# EAGLE library part CD4504B (library CD4504B)
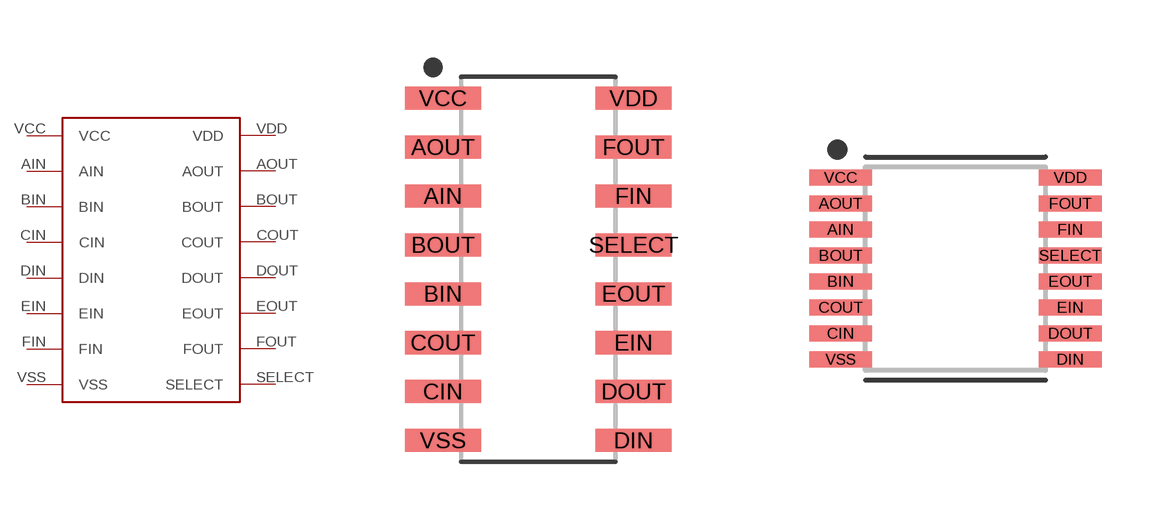
[diagram p0: symbol with the pads of SOIC127P600X175-16N; footprints SOIC127P600X175-16N, SOP65P640X120-16N]

Designator prefix -

## CD4504BSOIC16  [SOIC127P600X175-16N]
AIN  AIN
AOUT  AOUT
BIN  BIN
BOUT  BOUT
CIN  CIN
COUT  COUT
DIN  DIN
DOUT  DOUT
EIN  EIN
EOUT  EOUT
FIN  FIN
FOUT  FOUT
SELECT  SELECT
VCC  VCC
VDD  VDD
VSS  VSS

## CD4504BTSSOP16  [SOP65P640X120-16N]
Pads as for SOIC127P600X175-16N

## Footprint SOIC127P600X175-16N (pad centres in mm)
16-SOIC, 1.27 mm pitch, 6.00 mm span, 9.90 X 3.90 X 1.75 mm body 16-pin SOIC package with 1.27 mm pitch, 6.00 mm span with body size 9.90 X 3.90 X 1.75 mm
smd 1.968 x 0.599: AIN -2.473,1.905; AOUT -2.473,3.175; BIN -2.473,-0.635; BOUT -2.473,0.635; CIN -2.473,-3.175; COUT -2.473,-1.905; DIN 2.473,-4.445; DOUT 2.473,-3.175; EIN 2.473,-1.905; EOUT 2.473,-0.635; FIN 2.473,1.905; FOUT 2.473,3.175; SELECT 2.473,0.635; VCC -2.473,4.445; VDD 2.473,4.445; VSS -2.473,-4.445

## Footprint SOP65P640X120-16N (pad centres in mm)
16-SOP, 0.65 mm pitch, 6.40 mm span, 5.00 X 4.40 X 1.20 mm body 16-pin SOP package with 0.65 mm pitch, 6.40 mm span with body size 5.00 X 4.40 X 1.20 mm
smd 1.572 x 0.407: AIN -2.872,0.975; AOUT -2.872,1.625; BIN -2.872,-0.325; BOUT -2.872,0.325; CIN -2.872,-1.625; COUT -2.872,-0.975; DIN 2.872,-2.275; DOUT 2.872,-1.625; EIN 2.872,-0.975; EOUT 2.872,-0.325; FIN 2.872,0.975; FOUT 2.872,1.625; SELECT 2.872,0.325; VCC -2.872,2.275; VDD 2.872,2.275; VSS -2.872,-2.275